# Altium schematic symbol library RE_REN9_S.SchLib: 1 symbol
Pins are listed as number, name and electrical type; pins without a type are passive.

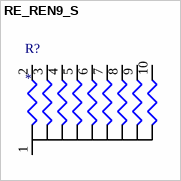
[diagram p0: symbol RE_REN9_S]

## RE_REN9_S
designator R?
pins: 1, 2, 3, 4, 5, 6, 7, 8, 9, 10